# Altium footprint library SmallJu_PCB_Lib.PcbLib: 29 footprints (part 2 of 2)
Each footprint in its own frame and in the unit in brackets; x right, y up, seen from the top. Pads: shape width x height; smd on the part's side, far side on the other; paste and mask are expansions set on the pad; w line width, h text height; cw(c..) or ccw(c..) is an arc to the next point about the centre after c.
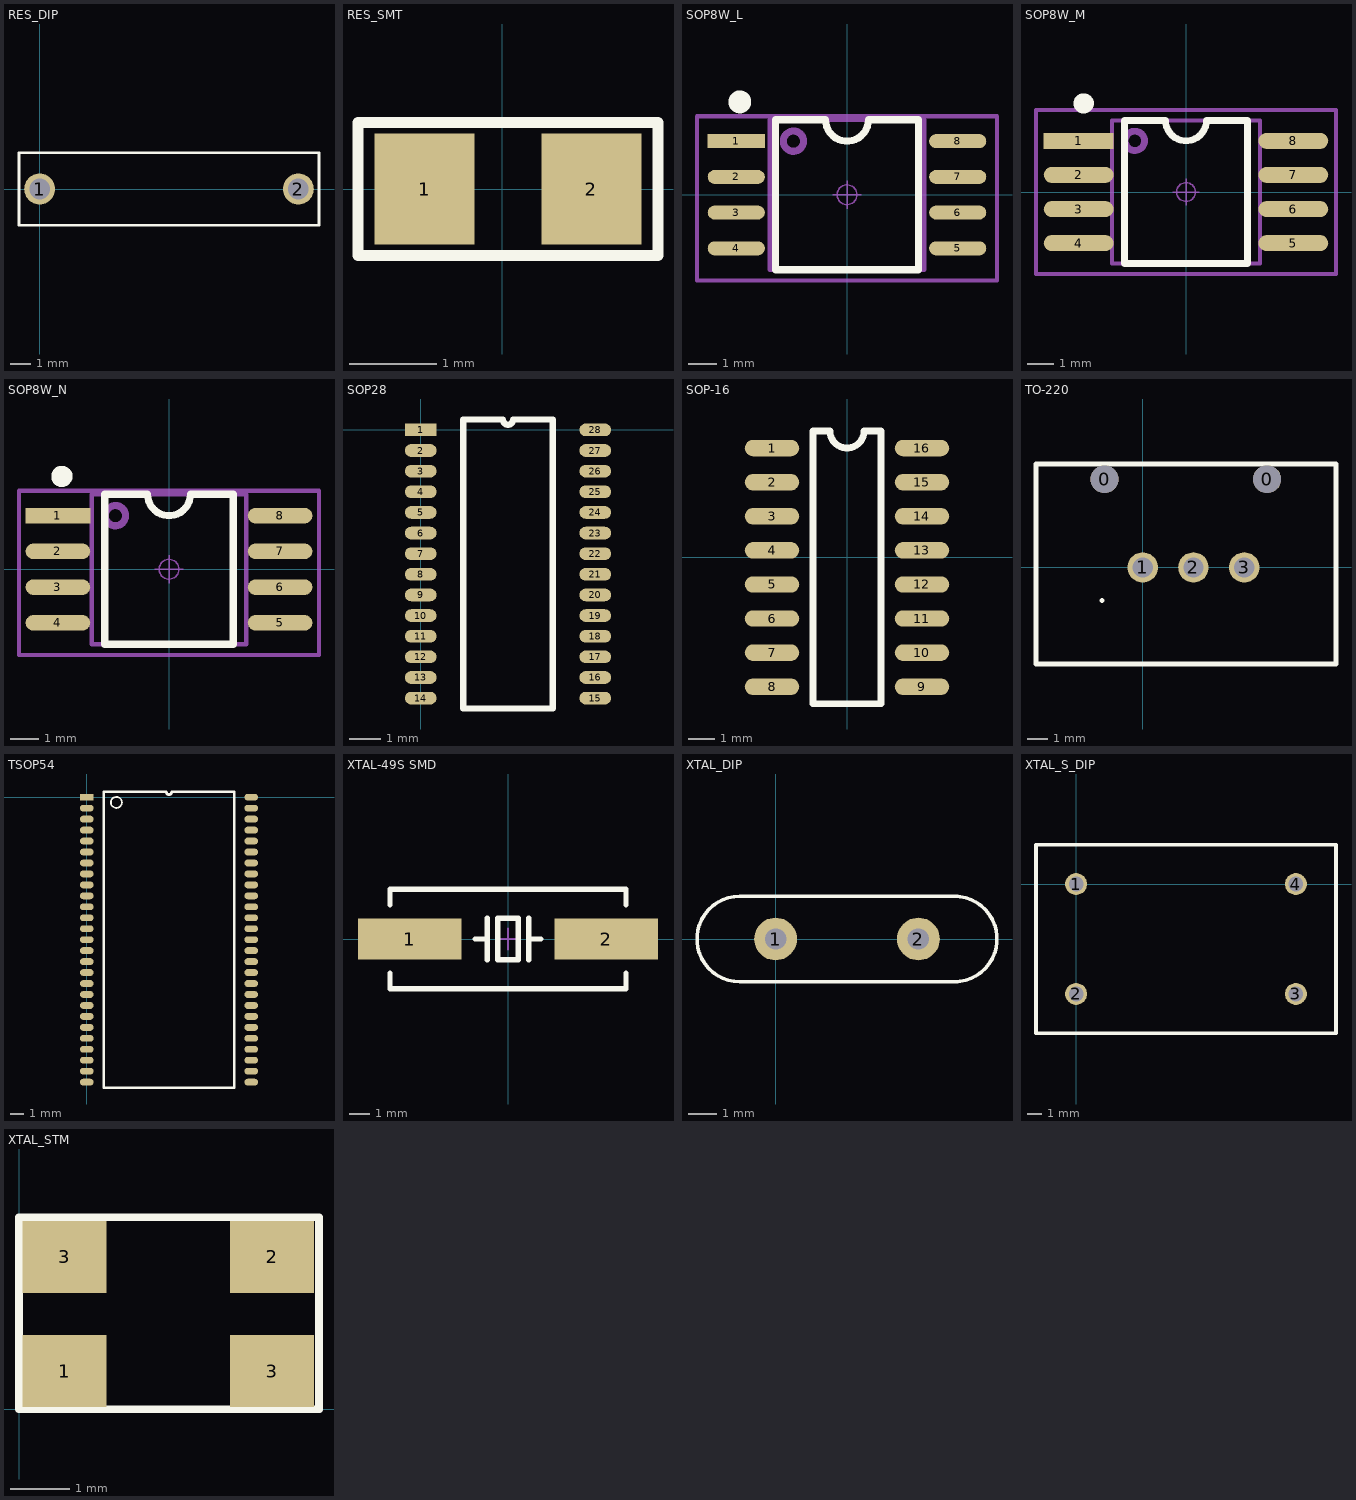
[diagram p1: the footprints below, top view; thin cyan lines are the x and y axes]

## RES_DIP [mil] "resistor;DIP"
pads (2):
  round 60 hole 40: 1(0,0) 2(500,0)
Top Overlay:
  lines w5: -40,-70 -40,70 540,70 540,-70 -40,-70
3D body "AXIAL0.5.STEP": height 102.25, standoff -79, extent -15,-55 515,57.5

## RES_SMT [mil] "resistor;STM;"
pads (2):
  rect 45x50 smd: 1(-35,0) 2(40,0)
Top Overlay:
  lines w5: -65,-30 70,-30 70,30 -65,30 -65,-30
3D body "RESC2012(0805).STEP": height 19.68, standoff 0, extent -39.36,-23.62 39.38,23.63

## SOP8W_L [mm] "5.3*8.3*1.8mm（长宽高）"
pads (8):
  rect 2.032x0.5 smd: 1(-3.937,1.905)
  oval 2.032x0.5 smd: 2(-3.937,0.635) 3(-3.937,-0.635) 4(-3.937,-1.905) 5(3.937,-1.905) 6(3.937,-0.635) 7(3.937,0.635) 8(3.937,1.905)
Top Overlay:
  circle w0.5: c-3.81,3.302 r0.155
  lines w0.254: -2.54,-2.667 2.54,-2.667 2.54,2.667 0.762,2.667 cw(c0,2.667) -0.762,2.667 -2.54,2.667 -2.54,-2.667
Mechanical 13:
  circle w0.254: c-1.905,1.905 r0.359
  lines w0.15: -2.75,-2.667 -2.75,2.667 2.75,2.667 2.75,-2.667 -2.75,-2.667
Mechanical 15:
  circle w0.05: c0,0 r0.35
  lines w0.05: -0.5,0 0.5,0 ; 0,-0.5 0,0.5
  lines w0.15: -5.334,-3.048 5.334,-3.048 5.334,2.794 -5.334,2.794 -5.334,-3.048
3D body "SOP8W.STEP": height 1.9, standoff 0, extent -3.943,-2.64 3.943,2.64

## SOP8W_M [mm] "5.3*8.3*1.8mm（长宽高）"
pads (8):
  rect 2.6x0.6 smd: 1(-4,1.905)
  oval 2.6x0.6 smd: 2(-4,0.635) 3(-4,-0.635) 4(-4,-1.905) 5(4,-1.905) 6(4,-0.635) 7(4,0.635) 8(4,1.905)
Top Overlay:
  circle w0.5: c-3.81,3.302 r0.127
  lines w0.254: -2.286,-2.667 -2.286,2.667 -0.762,2.667 ccw(c0,2.667) 0.762,2.667 2.286,2.667 2.286,-2.667 -2.286,-2.667
Mechanical 13:
  circle w0.254: c-1.905,1.905 r0.359
  lines w0.15: -2.75,-2.667 2.75,-2.667 2.75,2.667 -2.75,2.667 -2.75,-2.667
Mechanical 15:
  circle w0.05: c0,0 r0.35
  lines w0.05: -0.5,0 0.5,0 ; 0,-0.5 0,0.5
  lines w0.15: -5.588,-3.048 -5.588,3.048 5.588,3.048 5.588,-3.048 -5.588,-3.048
3D body "SOP8W.STEP": height 1.9, standoff 0, extent -3.943,-2.64 3.943,2.64

## SOP8W_N [mm] "5.3*8.3*1.8mm（长宽高）"
pads (8):
  rect 2.3x0.55 smd: 1(-3.95,1.905)
  oval 2.3x0.55 smd: 2(-3.95,0.635) 3(-3.95,-0.635) 4(-3.95,-1.905) 5(3.95,-1.905) 6(3.95,-0.635) 7(3.95,0.635) 8(3.95,1.905)
Top Overlay:
  circle w0.5: c-3.81,3.302 r0.127
  lines w0.254: -2.286,-2.667 2.286,-2.667 2.286,2.667 0.762,2.667 cw(c0,2.667) -0.762,2.667 -2.286,2.667 -2.286,-2.667
Mechanical 13:
  circle w0.254: c-1.905,1.905 r0.359
  lines w0.15: -2.75,-2.667 2.75,-2.667 2.75,2.667 -2.75,2.667 -2.75,-2.667
Mechanical 15:
  circle w0.05: c0,0 r0.35
  lines w0.05: -0.5,0 0.5,0 ; 0,-0.5 0,0.5
  lines w0.15: -5.334,-3.048 -5.334,2.794 5.334,2.794 5.334,-3.048 -5.334,-3.048
3D body "SOP8W.STEP": height 1.9, standoff 0, extent -3.943,-2.64 3.943,2.64

## SOP28 [mm]
pads (28):
  rect 1x0.4 smd: 1(0,0)
  oval 1x0.4 smd: 2(0,-0.65) 3(0,-1.3) 4(0,-1.95) 5(0,-2.6) 6(0,-3.25) 7(0,-3.9) 8(0,-4.55) 9(0,-5.2) 10(0,-5.85) 11(0,-6.5) 12(0,-7.15) 13(0,-7.8) 14(0,-8.45) 15(5.5,-8.45) 16(5.5,-7.8) 17(5.5,-7.15) 18(5.5,-6.5) 19(5.5,-5.85) 20(5.5,-5.2) 21(5.5,-4.55) 22(5.5,-3.9) 23(5.5,-3.25) 24(5.5,-2.6) 25(5.5,-1.95) 26(5.5,-1.3) 27(5.5,-0.65) 28(5.5,0)
Top Overlay:
  lines w0.2: 1.335,-8.775 1.335,0.325 2.588,0.325 ccw(c2.75,0.325) 2.912,0.325 4.165,0.325 4.165,-8.775 1.335,-8.775
3D body "TSSOP-28.STEP": height 1.03, standoff 0.04, extent -0.406,-9.041 5.994,0.659

## SOP-16 [mil]
height 270.08
pads (16):
  oval 80x24 smd: 1(-110,160) 2(-110,110) 3(-110,60) 4(-110,10) 5(-110,-40) 6(-110,-90) 7(-110,-140) 8(-110,-190) 9(110,-190) 10(110,-140) 11(110,-90) 12(110,-40) 13(110,10) 14(110,60) 15(110,110) 16(110,160)
Top Overlay:
  lines w10: -50,-215 50,-215 50,185 25,185 cw(c0,185) -25,185 -50,185 -50,-215
3D body "SOIC16.STEP": height 76.77, standoff 0, extent -114.2,-217.75 124.21,187.76

## TO-220 [mil] "LM78XX,LM79xx"
pads (5):
  round 55 hole 55: 0(-75,173.7) 0(245,173.7)
  round 60 hole 40: 1(0,0) 2(100,0) 3(200,0)
Top Overlay:
  lines w10: -80,-65 -79.9,-65 ; -210,-190 -210,203.7 380.56,203.7 380.56,-190 -210,-190
3D body "Heatsink 15X10X20.STEP": height 787.4, standoff -98.43, extent -210,-190 380.56,203.7
3D body "TO-220-3.STEP": height 710.24, standoff -422.83, extent -99.88,-90 289.88,87.16

## TSOP54 [mm]
pads (54):
  rect 1x0.5 smd: 1(0,0)
  oval 1x0.5 smd: 2(0,-0.8) 3(0,-1.6) 4(0,-2.4) 5(0,-3.2) 6(0,-4) 7(0,-4.8) 8(0,-5.6) 9(0,-6.4) 10(0,-7.2) 11(0,-8) 12(0,-8.8) 13(0,-9.6) 14(0,-10.4) 15(0,-11.2) 16(0,-12) 17(0,-12.8) 18(0,-13.6) 19(0,-14.4) 20(0,-15.2) 21(0,-16) 22(0,-16.8) 23(0,-17.6) 24(0,-18.4) 25(0,-19.2) 26(0,-20) 27(0,-20.8) 28(12,-20.8) 29(12,-20) 30(12,-19.2) 31(12,-18.4) 32(12,-17.6) 33(12,-16.8) 34(12,-16) 35(12,-15.2) 36(12,-14.4) 37(12,-13.6) 38(12,-12.8) 39(12,-12) 40(12,-11.2) 41(12,-10.4) 42(12,-9.6) 43(12,-8.8) 44(12,-8) 45(12,-7.2) 46(12,-6.4) 47(12,-5.6) 48(12,-4.8) 49(12,-4) 50(12,-3.2) 51(12,-2.4) 52(12,-1.6) 53(12,-0.8) 54(12,0)
Top Overlay:
  circle w0.127: c2.159,-0.381 r0.402
  lines w0.2: 1.235,-21.2 1.235,0.4 5.8,0.4 ccw(c6,0.4) 6.2,0.4 10.765,0.4 10.765,-21.2 1.235,-21.2
3D body "TSOP-54-1.STEP": height 1.25, standoff 0, extent 0.089,-21.524 11.849,0.696

## XTAL-49S SMD [mm]
pads (2):
  rect 5x2 smd: 1(-4.75,0) 2(4.75,0)
Top Overlay:
  lines w0.254: -5.7,-1.65 -5.7,-2.4 5.7,-2.4 5.7,-1.65 ; -5.7,1.65 -5.7,2.4 5.7,2.4 5.7,1.65 ; -1.6,0 -1,0 ; -1,-1 -1,1 ; 1,-1 1,1 ; 1,0 1.6,0 ; -0.5,-1 -0.5,1 0.5,1 0.5,-1 -0.5,-1
Mechanical 15:
  lines w0.076: -0.508,0 0.508,0 ; 0,-0.508 0,0.508
3D body "User Library-hc49_cystal.STEP": height 4, standoff 0, extent -6.7,-2.462 6.7,2.438

## XTAL_DIP [mil] "Passive Crystal;DIP;"
pads (2):
  round 60 hole 30: 1(0,0) 2(200,0)
Top Overlay:
  lines w5: 249.98,-60 ccw(c249.98,0) 249.98,60 ; 254.98,-60 -50.02,-60 cw(c-50,0) -50,60 254.98,60
3D body "XTAL 9mm.STEP": height 121.8, standoff -100, extent -109.99,-59.99 310.01,60.01

## XTAL_S_DIP [mil] "ceystal whi source;DIP"
pads (4):
  round 60 hole 40: 1(0,0) 2(0,-300) 3(600,-300) 4(600,0)
Top Overlay:
  lines w10: -109.44,103.04 -109.44,-407.48 709.45,-407.48 709.45,107.49 -109.44,107.49
3D body "Xtal_DIP.STEP": height 286.22, standoff -196.85, extent -109.44,-407.48 709.45,107.49

## XTAL_STM [mm] "crystal;SMT;"
pads (4):
  rect 1.4x1.2 smd: 1(0.762,0.635) 2(4.22,2.54) 3(0.762,2.54) 3(4.22,0.635)
Top Overlay:
  lines w0.127: 0,0 5,0 5,3.2 0,3.2 0,0
  text "." at -0.635,0 h1
Mechanical 1:
  lines w0.127: 5,0 5,0
3D body "XTAL-Crystal SMD 5X3.2.STEP": height 1, standoff 0, extent 0,0 5,3.2